# EAGLE library part LM22670 (library Adams)
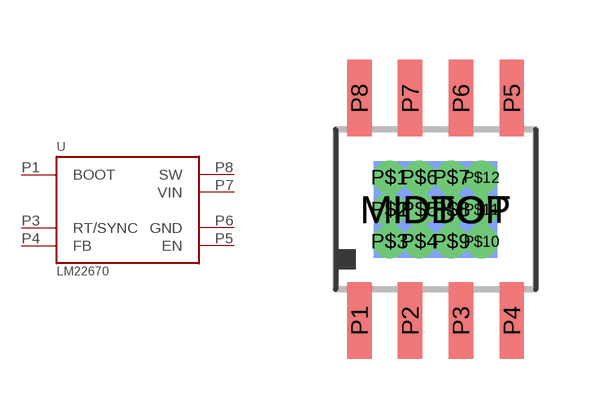
[diagram p0: symbol with the pads of POWERPAD8; footprint POWERPAD8]

Designator prefix -

## LM22670LM22670  [POWERPAD8]
P1  BOOT
P3  RT/SYNC
P4  FB
P5  EN
P6  GND
P7  VIN
P8  SW

## Footprint POWERPAD8 (pad centres in mm)
smd 3.099 x 2.413 bottom: MIDBOT 0,0
smd 3.099 x 2.413: MIDTOP 0,0
smd 0.61 x 1.91: P1 -1.905,-2.78; P2 -0.635,-2.78; P3 0.635,-2.78; P4 1.905,-2.78; P5 1.905,2.78; P6 0.635,2.78; P7 -0.635,2.78; P8 -1.905,2.78
drill 0.33 pad 0.686: P$1 -1.15,0.8; P$2 -1.15,0; P$3 -1.15,-0.8; P$4 -0.4,-0.8; P$5 -0.4,0; P$6 -0.4,0.8; P$7 0.4,0.8; P$8 0.4,0; P$9 0.4,-0.8; P$10 1.15,-0.8; P$11 1.15,0; P$12 1.15,0.8